# Altium schematic symbol library Osciloscope_library.SchLib: 13 symbols
Pins are listed as number, name and electrical type; pins without a type are passive.

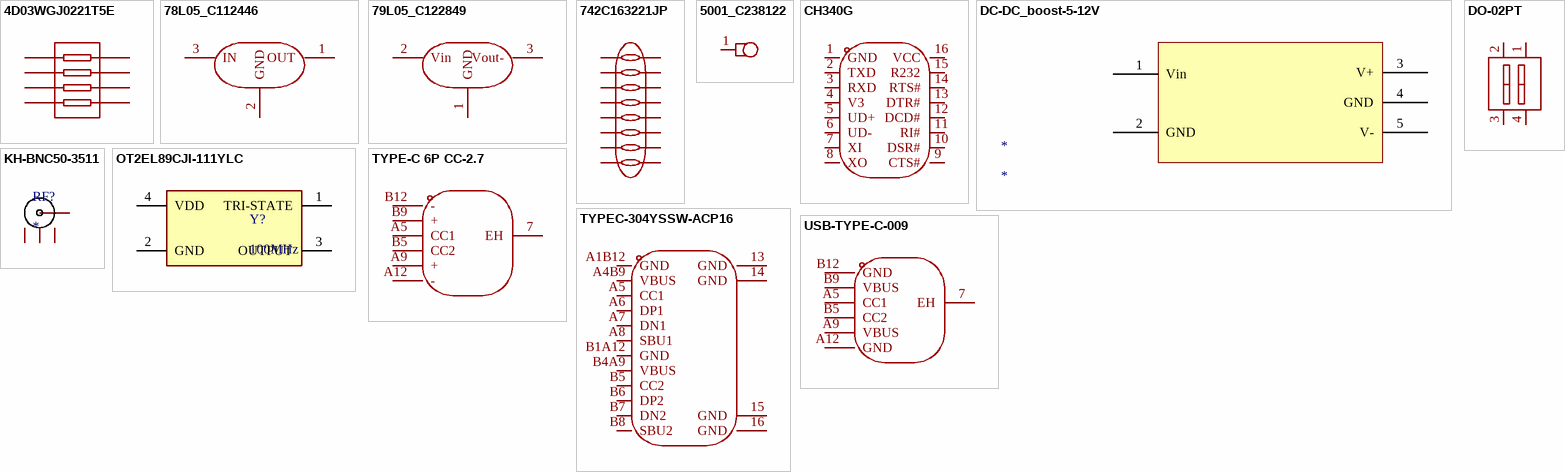
[diagram p0: symbols 4D03WGJ0221T5E to USB-TYPE-C-009]

## 4D03WGJ0221T5E
designator RN??, comment 220Ω  (value not drawn)
Manufacturer: UNI-ROYAL(厚声); Symbol: 4D03WGJ0221T5E; Add into BOM: yes; Tolerance: ±5%; Temperature Coefficient: ±200ppm/℃; Device: 4D03WGJ0221T5E; LCSC Part Name: 220Ω ±5% 0603x4; Supplier Part: C29719; Manufacturer Part: 4D03WGJ0221T5E; Supplier Footprint: 0603x4; JLCPCB Part Class: Extended Part; Datasheet: https://atta.szlcsc.com/upload/public/pdf/source/20191224/C474318_2527498AE30E813171187CCD28401A71.pdf; Supplier: LCSC; Convert to PCB: yes; Value: 220Ω
footprint RES-ARRAY-SMD_0603-8P-L3.2-W1.6-BL (Footprint not found)
pins: 1, 2, 3, 4, 5, 6, 7, 8

## 78L05_C112446
designator U??
Manufacturer: SHIKUES(时科); Symbol: 78L05; Device: 78L05_C112446; Add into BOM: yes; Maximum Input Voltage: 35V; Output Voltage: 5V; MAX Output Current: 150mA; Power Supply Rejection Ratio (PSRR): 49dB@(120Hz); Dropout Voltage: 1.7V@(40mA); Output Polarity: Positive electrode; Number of Outputs: 1; LCSC Part Name: 输入35V 输出5V 150mA; Supplier Part: C112446; Manufacturer Part: 78L05; Supplier Footprint: SOT-89-3; JLCPCB Part Class: Extended Part; Datasheet: https://atta.szlcsc.com/upload/public/pdf/source/20170721/C122848_1500622633164834592.pdf; Supplier: LCSC; Convert to PCB: yes
footprint SOT-89-3_L4.5-W2.5-P1.50-LS4.2-BR
pins: 1 OUT, 2 GND, 3 IN

## 79L05_C122849
designator U??
Manufacturer: SHIKUES(时科); Symbol: 79L05; Device: 79L05_C122849; Add into BOM: yes; Maximum Input Voltage: 35V; Output Voltage: 5V; MAX Output Current: 150mA; Power Supply Rejection Ratio (PSRR): 49dB@(120Hz); Dropout Voltage: 1.7V@(40mA); Output Polarity: Negative electrode; Number of Outputs: 1; LCSC Part Name: 输入35V 输出5V 150mA; Supplier Part: C122849; Manufacturer Part: 79L05; Supplier Footprint: SOT-89-3; JLCPCB Part Class: Extended Part; Datasheet: https://atta.szlcsc.com/upload/public/pdf/source/20180625/C122890_584C137742CBBDB4CE2BEC6B637E5E74.pdf; Supplier: LCSC; Convert to PCB: yes
footprint SOT-89-3_L4.5-W2.5-P1.50-LS4.2-BR (Footprint not found)
pins: 1 GND, 2 Vin, 3 Vout-

## 742C163221JP
designator R??, comment 220Ω  (value not drawn)
Manufacturer: CTS(西迪斯); Symbol: 742C163221JP; Add into BOM: yes; Tolerance: ±5%; Temperature Coefficient: ±200ppm/℃; Device: 742C163221JP; LCSC Part Name: 220Ω ±5%; Supplier Part: C1732037; Manufacturer Part: 742C163221JP; Supplier Footprint: 0603x8; JLCPCB Part Class: Extended Part; Datasheet: https://atta.szlcsc.com/upload/public/pdf/source/20210503/EA698ADAEE513162139F7667D383C0D0.pdf; Supplier: LCSC; Convert to PCB: yes; Value: 220Ω
footprint RES-ARRAY-SMD_0603-16P-L6.4-W1.6-TL (Footprint not found)
pins: 1, 2, 3, 4, 5, 6, 7, 8, 9, 10, 11, 12, 13, 14, 15, 16

## 5001_C238122
designator 79L05
Manufacturer: Keystone; Symbol: 5001; Device: 5001_C238122; Add into BOM: yes; LCSC Part Name: 5001; Supplier Part: C238122; Manufacturer Part: 5001; Supplier Footprint: -; JLCPCB Part Class: Extended Part; Datasheet: https://atta.szlcsc.com/upload/public/pdf/source/20211115/64B944F8418AA2CF0680BB1B201435FB.pdf; Supplier: LCSC; Convert to PCB: yes
footprint TEST-TH_BD2.54-P1.39
pins: 1

## CH340G
designator 742C163221JP  (value not drawn)
Manufacturer: WCH(南京沁恒); Add into BOM: yes; Applications Function: Transceiver; Supply Voltage: 3.3V；5V; Data Rate: 2Mbps; Symbol: CH340G; Device: CH340G; LCSC Part Name: USB转串口芯片 CH340; Supplier Part: C14267; Manufacturer Part: CH340G; Supplier Footprint: SOP-16; JLCPCB Part Class: Extended Part; Datasheet: https://atta.szlcsc.com/upload/public/pdf/source/20230530/6E401E9554E9F5311886CC8B3F89B62E.pdf; Supplier: LCSC; Convert to PCB: yes
footprint SOIC-16_L9.9-W3.9-P1.27-LS6.0-BL
pins: 1 GND, 2 TXD, 3 RXD, 4 V3, 5 UD+, 6 UD-, 7 XI, 8 XO, 9 CTS#, 10 DSR#, 11 RI#, 12 DCD#, 13 DTR#, 14 RTS#, 15 R232, 16 VCC

## DC-DC_boost-5-12V
designator *
footprint Dip
pins: 1 Vin, 2 GND, 3 V+, 4 GND, 5 V-

## DO-02PT
designator 4D03WGJ0221T5E  (value not drawn)
Manufacturer: HANBO(汉博); Add into BOM: yes; Circuit: SPST; Number of Positions: 2 positions; Current Rating: 25mA; Voltage Rating: 24V; Operating Life: 3000 Times; Symbol: DO-02PT; Device: DO-02PT; LCSC Part Name: 2.54mm间距 2位贴片高柄 双排IC型贴片 拨码开关; Supplier Part: C18198115; Manufacturer Part: DO-02PT; Supplier Footprint: SMD,P=2.54mm; JLCPCB Part Class: Extended Part; Datasheet: https://atta.szlcsc.com/upload/public/pdf/source/20230921/A585A1A9C96A17CB5999FCF006429FA9.pdf; Supplier: LCSC; Convert to PCB: yes; Type: Flat Toggle, Raised Style; Lead Pitch: 2.54mm; Operating Temperature: -40℃~+85℃; Color: Black
footprint SW-SMD_4P-L6.0-W5.1-P2.54-LS9.3-BL
pins: 1 A1, 2 A2, 3 B2, 4 B1

## KH-BNC50-3511
designator RF?
footprint ANT-TH_KH-BNC50-3511
pins: 1 OUT, 2, 3, 4

## OT2EL89CJI-111YLC
designator Y?, comment 100MHz
MP: ASEDV-12.000MHZ-LC; Value: *; Package: None; Price: None; Availability: Unavailable
footprint OT2EL89CJI-111YLC
pins: 1 TRI-STATE, 2 GND, 3 OUTPUT, 4 VDD (power)

## TYPE-C 6P CC-2.7
designator USB-TYPE-C-009
Manufacturer: SHOU HAN(首韩); Symbol: TYPE-C 6P CC-2.7; Add into BOM: yes; Connector Type: Type-C; Gender: Female; Number of Contacts: 6P; Number of Ports: 1; Current Rating - Power (Max): 3A; Rated Voltage (Max): 20V; Connect-Disconnect Life: 10,000 times; Core Colour: Black; Device: TYPE-C 6P CC-2.7; LCSC Part Name: Type-C 母 侧插; Supplier Part: C5187474; Manufacturer Part: TYPE-C 6P CC-2.7; Supplier Footprint: 插件; JLCPCB Part Class: Extended Part; Datasheet: https://atta.szlcsc.com/upload/public/pdf/source/20220929/33F960567187262DEC5296D04CD9E865.pdf; Supplier: LCSC; Convert to PCB: yes; Standard: USB 3.1; Mounting Style: Side Insertion; Operating Temperature Range: -30℃~+85℃
footprint TYPE-C-TH_SHOUHAN_TYPE-C-6P-CC-2.7 (Footprint not found)
pins: 7 EH, A5 CC1, A9 +, A12 -, B5 CC2, B9 +, B12 -

## TYPEC-304YSSW-ACP16
designator USB??
Manufacturer: XUNPU(讯普); Symbol: TYPEC-304YSSW-ACP16; Add into BOM: yes; Connector Type: Type-C; Gender: Female; Number of Ports: 1; Number of Contacts: 16P; Current Rating - Power (Max): 5A; Soldering Temperature(Max): 260℃; Device: TYPEC-304YSSW-ACP16; LCSC Part Name: Type-C 母 卧贴; Supplier Part: C2840392; Manufacturer Part: TYPEC-304YSSW-ACP16; Supplier Footprint: SMD; JLCPCB Part Class: Extended Part; Datasheet: https://atta.szlcsc.com/upload/public/pdf/source/20210615/C2840392_E4D6700BD82FA37F52F4054C59437243.pdf; Supplier: LCSC; Convert to PCB: yes; Standard: USB 3.1; Mounting Style: 卧贴; Contact Material: -; Contact Plating: -; Operating Temperature Range: -25℃~+85℃
footprint USB-SMD_TYPEC-304YSSW-ACP16 (Footprint not found)
pins: 13 GND, 14 GND, 15 GND, 16 GND, A1B12 GND, A4B9 VBUS, A5 CC1, A6 DP1, A7 DN1, A8 SBU1, B1A12 GND, B4A9 VBUS, B5 CC2, B6 DP2, B7 DN2, B8 SBU2

## USB-TYPE-C-009
designator moze byt esp 32 s3 byt programovane pomocou usb hned po prvom zapnuti?moze byt esp 32 s3 byt programovane pomocou usb hned po prvom zapnuti?  (value not drawn)
Manufacturer: DEALON(德艺隆); Add into BOM: yes; Connector Type: Type-C; Gender: Female; Number of Ports: 1; Number of Contacts: 6P; Current Rating - Power (Max): 5A; Symbol: USB-TYPE-C-009; Device: USB-TYPE-C-009; LCSC Part Name: Type-C 母 卧贴; Supplier Part: C2927029; Manufacturer Part: USB-TYPE-C-009; Supplier Footprint: SMD; JLCPCB Part Class: Extended Part; Datasheet: https://atta.szlcsc.com/upload/public/pdf/source/20211217/1285E39CB33F6A7DB557CB6D0A3C6F17.pdf; Supplier: LCSC; Convert to PCB: yes; Standard: -; Mounting Style: 卧贴; Operating Temperature Range: -25℃~+85℃
footprint TYPE-C-SMD_TYPE-C-6P (Footprint not found)
pins: 7 EH, A5 CC1, A9 VBUS, A12 GND, B5 CC2, B9 VBUS, B12 GND